# EAGLE library part CY7C1069AV33Z (library pixel)
2M x 8 Static RAM Source: CYPRESS cy7c1069av33_8.pdf
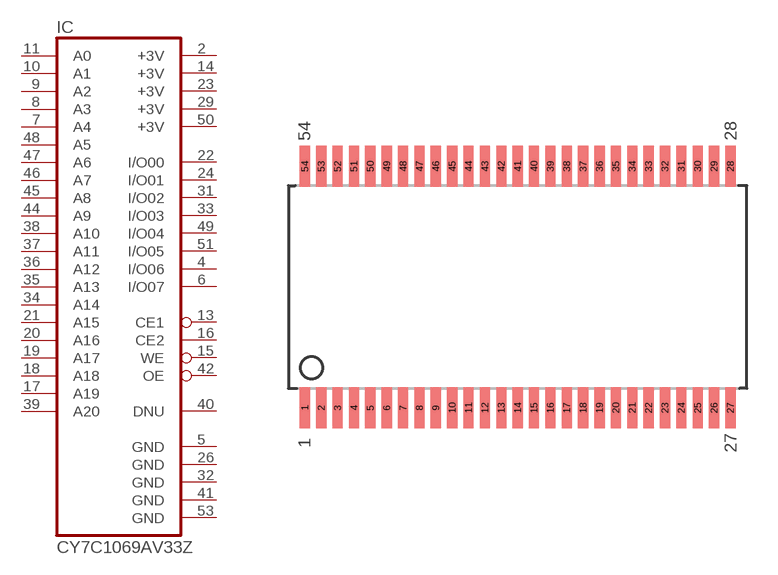
[diagram p18: symbol with the pads of TSOPII-54-LL; footprint TSOPII-54-LL]

Designator prefix IC

## CY7C1069AV33Z  [TSOPII-54-LL]
2  +3V  pwr
4  I/O06
5  GND  pwr
6  I/O07
7  A4  in
8  A3  in
9  A2  in
10  A1  in
11  A0  in
13  CE1  in
14  +3V  pwr
15  WE  in
16  CE2  in
17  A19  in
18  A18  in
19  A17  in
20  A16  in
21  A15  in
22  I/O00
23  +3V  pwr
24  I/O01
26  GND  pwr
29  +3V  pwr
31  I/O02
32  GND  pwr
33  I/O03
34  A14  in
35  A13  in
36  A12  in
37  A11  in
38  A10  in
39  A20  in
40  DNU  pas
41  GND  pwr
42  OE  in
44  A9  in
45  A8  in
46  A7  in
47  A6  in
48  A5  in
49  I/O04
50  +3V  pwr
51  I/O05
53  GND  pwr

## Footprint TSOPII-54-LL (pad centres in mm)
54-pin TSOP II (51-85160) Source: CYPRESS cy7c1069av33_8.pdf
smd 0.5 x 2: 1 -10.4,-5.9; 2 -9.6,-5.9; 3 -8.8,-5.9; 4 -8,-5.9; 5 -7.2,-5.9; 6 -6.4,-5.9; 7 -5.6,-5.9; 8 -4.8,-5.9; 9 -4,-5.9; 10 -3.2,-5.9; 11 -2.4,-5.9; 12 -1.6,-5.9; 13 -0.8,-5.9; 14 0,-5.9; 15 0.8,-5.9; 16 1.6,-5.9; 17 2.4,-5.9; 18 3.2,-5.9; 19 4,-5.9; 20 4.8,-5.9; 21 5.6,-5.9; 22 6.4,-5.9; 23 7.2,-5.9; 24 8,-5.9; 25 8.8,-5.9; 26 9.6,-5.9; 27 10.4,-5.9; 28 10.4,5.9; 29 9.6,5.9; 30 8.8,5.9; 31 8,5.9; 32 7.2,5.9; 33 6.4,5.9; 34 5.6,5.9; 35 4.8,5.9; 36 4,5.9; 37 3.2,5.9; 38 2.4,5.9; 39 1.6,5.9; 40 0.8,5.9; 41 0,5.9; 42 -0.8,5.9; 43 -1.6,5.9; 44 -2.4,5.9; 45 -3.2,5.9; 46 -4,5.9; 47 -4.8,5.9; 48 -5.6,5.9; 49 -6.4,5.9; 50 -7.2,5.9; 51 -8,5.9; 52 -8.8,5.9; 53 -9.6,5.9; 54 -10.4,5.9